# Altium integrated library TI Amplifiers and Linear Operational Amplifier Precision Amplifier Part One.IntLib: 2299 symbols (part 39 of 85)
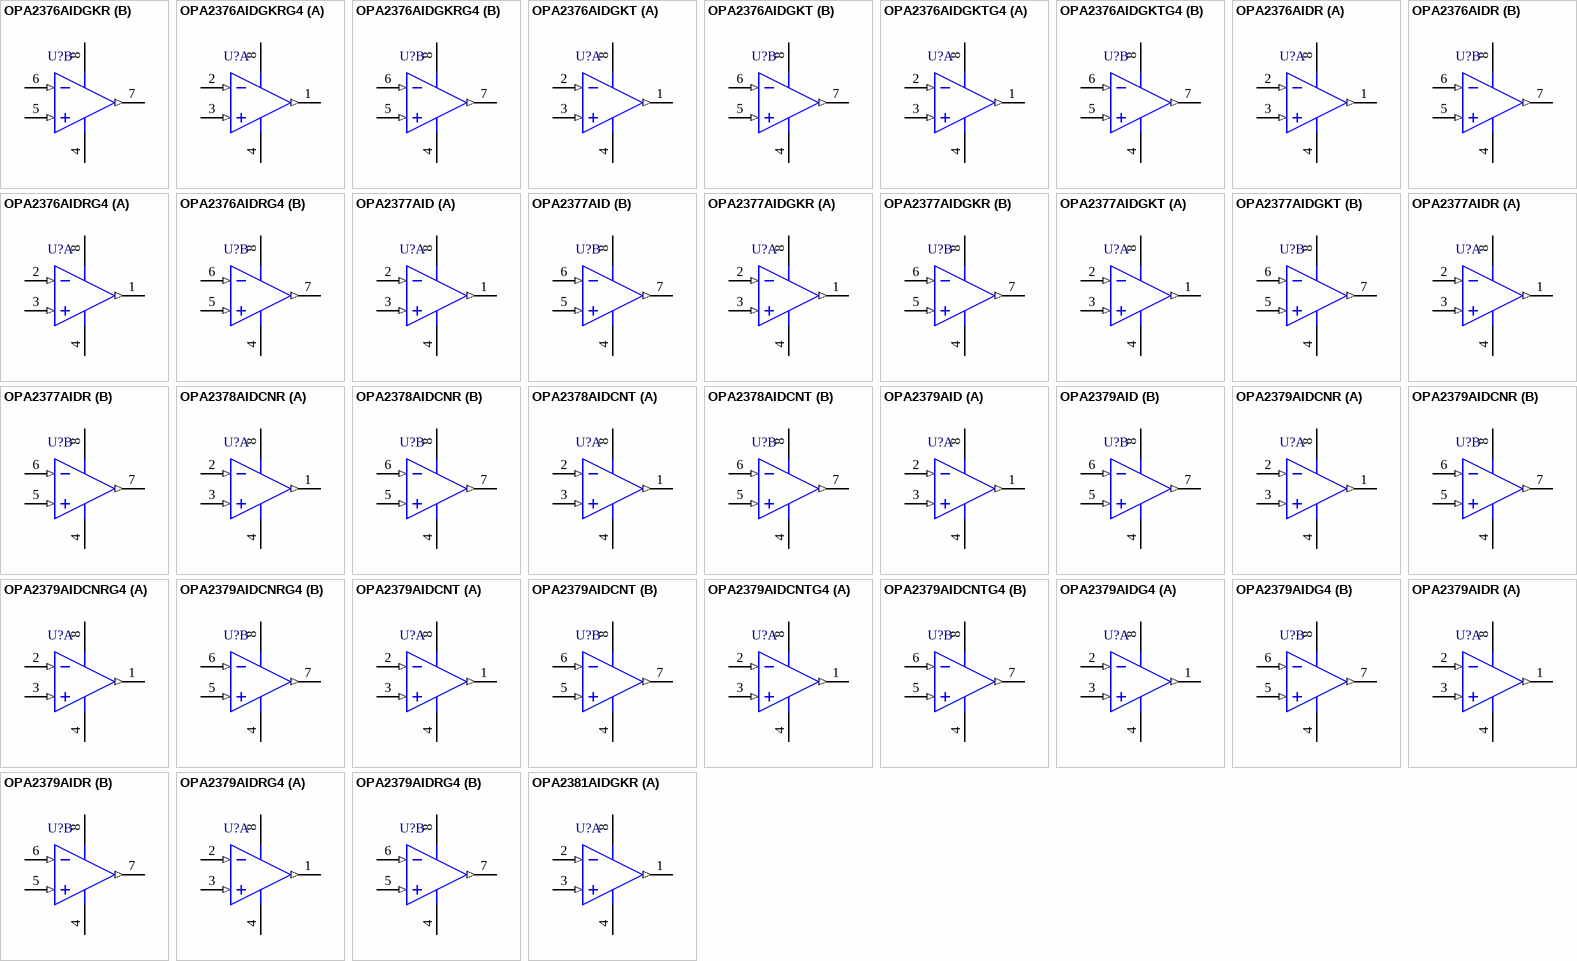
[diagram p162: symbols OPA2376AIDGKR to OPA2381AIDGKR]

## OPA2379AID
designator U?
Dual 2.9 uA, RR I/O Operational Amplifier, 1.8 to 5.5 V, -40 to 125 degC, 8-pin SOIC (D8), Green (RoHS & no Sb/Br); Manufacturer: Texas Instruments; PartNumber: OPA2379AID; CMRR(Min)(dB): 90; GBW(Typ)(MHz): 0.09; IIB(Max)(pA): 50; Iq per channel(Max)(mA): 0.0055; Number of Channels: 2; Offset Drift(Typ)(uV/C): 2.7; Packing: TUBE; Rating: Catalog; Slew Rate(Typ)(V/us): 0.03; Sub Family: Low Power Amp (<=500uA), Low Supply Voltage Amplifier (<=2.7V), Precision Amplifier; Total Supply Voltage(Max)(+5V is 5, +/-5V is 10): 5.5; Total Supply Voltage(Min)(+5V is 5, +/-5V is 10): 1.8; Vio (25C)(Max)(mV): 1.5; DatasheetVersion: SBOS347D; PackageVersion: 4040047-3/M, 06/2011; PackageReference: D8; PackageDescription: 8-Pin Plastic Small Outline, Body 4.9 x 3.9 mm, Pitch 1.27 mm; Supplier 1: Digi-Key; Supplier Part Number 1: 296-19412-5-ND; Supplier 2: Farnell; Supplier Part Number 2: 1564904; Supplier 3: Newark; Supplier Part Number 3: 71K9015; Supplier 4: Mouser; Supplier Part Number 4: 595-OPA2379AID; Eco-Plan: Green (RoHS & no Sb/Br); Mounting Technology: Surface Mount; Code_JEDEC: MS-012; ComponentLink1Description: Manufacturer URL; ComponentLink1URL: http://www.ti.com/; ComponentLink2Description: Datasheet; ComponentLink2URL: http://www.ti.com/lit/ds/symlink/opa2379.pdf; ComponentLink3Description: Package Specification; ComponentLink3URL: http://www.ti.com/litv/pdf/msoi002j
footprint TI-D8_N (SOIC, 8-Leads, Body 4.9x3.9mm, Pitch 1.27mm, IPC Medium Density)
footprint TI-D8_L (SOIC, 8-Leads, Body 4.9x3.9mm, Pitch 1.27mm, IPC High Density)
footprint TI-D8_M (SOIC, 8-Leads, Body 4.9x3.9mm, Pitch 1.27mm, IPC Low Density)
pins on every part: 4 V- (power), 8 V+ (power)
part A pins: 1 OUT A (out), 2 IN A- (in), 3 IN A+ (in)
part B pins: 5 IN B+ (in), 6 IN B- (in), 7 OUT B (out)

## OPA2379AIDCNR
designator U?
Dual 2.9 uA, RR I/O Operational Amplifier, 1.8 to 5.5 V, -40 to 125 degC, 8-pin SOP (DCN8), Green (RoHS & no Sb/Br); Manufacturer: Texas Instruments; PartNumber: OPA2379AIDCNR; CMRR(Min)(dB): 90; GBW(Typ)(MHz): 0.09; IIB(Max)(pA): 50; Iq per channel(Max)(mA): 0.0055; Number of Channels: 2; Offset Drift(Typ)(uV/C): 2.7; Packing: LARGE T&R; Rating: Catalog; Slew Rate(Typ)(V/us): 0.03; Sub Family: Low Power Amp (<=500uA), Low Supply Voltage Amplifier (<=2.7V), Precision Amplifier; Total Supply Voltage(Max)(+5V is 5, +/-5V is 10): 5.5; Total Supply Voltage(Min)(+5V is 5, +/-5V is 10): 1.8; Vio (25C)(Max)(mV): 1.5; DatasheetVersion: SBOS347D; PackageVersion: 4202106/D, 11/2009; PackageReference: DCN8; PackageDescription: 8-Pin Plastic Small Outline, Body 1.6 x 2.9 mm, Pitch 0.65 mm; Supplier 1: Digi-Key; Supplier Part Number 1: 296-23445-2-ND; Supplier 2: Digi-Key; Supplier Part Number 2: 296-23445-1-ND; Supplier 3: Digi-Key; Supplier Part Number 3: 296-23445-6-ND; Supplier 4: Newark; Supplier Part Number 4: 11N9638; Supplier 5: Mouser; Supplier Part Number 5: 595-OPA2379AIDCNR; Eco-Plan: Green (RoHS & no Sb/Br); Mounting Technology: Surface Mount; Code_JEDEC: MO-178; ComponentLink1Description: Manufacturer URL; ComponentLink1URL: http://www.ti.com/; ComponentLink2Description: Datasheet; ComponentLink2URL: http://www.ti.com/lit/ds/symlink/opa2379.pdf; ComponentLink3Description: Package Specification; ComponentLink3URL: http://www.ti.com/lit/ml/mpds099c/mpds099c.pdf
footprint TI-DCN8_N (SOP, 8-Leads, Body 2.9x1.6mm, Pitch 0.65mm, IPC Medium Density)
footprint TI-DCN8_L (SOP, 8-Leads, Body 2.9x1.6mm, Pitch 0.65mm, IPC High Density)
footprint TI-DCN8_M (SOP, 8-Leads, Body 2.9x1.6mm, Pitch 0.65mm, IPC Low Density)
pins on every part: 4 V- (power), 8 V+ (power)
part A pins: 1 OUT A (out), 2 IN A- (in), 3 IN A+ (in)
part B pins: 5 IN B+ (in), 6 IN B- (in), 7 OUT B (out)

## OPA2379AIDCNRG4
designator U?
Dual 2.9 uA, RR I/O Operational Amplifier, 1.8 to 5.5 V, -40 to 125 degC, 8-pin SOP (DCN8), Green (RoHS & no Sb/Br); Manufacturer: Texas Instruments; PartNumber: OPA2379AIDCNRG4; CMRR(Min)(dB): 90; GBW(Typ)(MHz): 0.09; IIB(Max)(pA): 50; Iq per channel(Max)(mA): 0.0055; Number of Channels: 2; Offset Drift(Typ)(uV/C): 2.7; Packing: LARGE T&R; Rating: Catalog; Slew Rate(Typ)(V/us): 0.03; Sub Family: Low Power Amp (<=500uA), Low Supply Voltage Amplifier (<=2.7V), Precision Amplifier; Total Supply Voltage(Max)(+5V is 5, +/-5V is 10): 5.5; Total Supply Voltage(Min)(+5V is 5, +/-5V is 10): 1.8; Vio (25C)(Max)(mV): 1.5; DatasheetVersion: SBOS347D; PackageVersion: 4202106/D, 11/2009; PackageReference: DCN8; PackageDescription: 8-Pin Plastic Small Outline, Body 1.6 x 2.9 mm, Pitch 0.65 mm; Supplier 1: Digi-Key; Supplier Part Number 1: OPA2379AIDCNRG4-ND; Supplier 2: Mouser; Supplier Part Number 2: 595-OPA2379AIDCNRG4; Eco-Plan: Green (RoHS & no Sb/Br); Mounting Technology: Surface Mount; Code_JEDEC: MO-178; ComponentLink1Description: Manufacturer URL; ComponentLink1URL: http://www.ti.com/; ComponentLink2Description: Datasheet; ComponentLink2URL: http://www.ti.com/lit/ds/symlink/opa2379.pdf; ComponentLink3Description: Package Specification; ComponentLink3URL: http://www.ti.com/lit/ml/mpds099c/mpds099c.pdf
footprint TI-DCN8_N (SOP, 8-Leads, Body 2.9x1.6mm, Pitch 0.65mm, IPC Medium Density)
footprint TI-DCN8_L (SOP, 8-Leads, Body 2.9x1.6mm, Pitch 0.65mm, IPC High Density)
footprint TI-DCN8_M (SOP, 8-Leads, Body 2.9x1.6mm, Pitch 0.65mm, IPC Low Density)
pins on every part: 4 V- (power), 8 V+ (power)
part A pins: 1 OUT A (out), 2 IN A- (in), 3 IN A+ (in)
part B pins: 5 IN B+ (in), 6 IN B- (in), 7 OUT B (out)

## OPA2379AIDCNT
designator U?
Dual 2.9 uA, RR I/O Operational Amplifier, 1.8 to 5.5 V, -40 to 125 degC, 8-pin SOP (DCN8), Green (RoHS & no Sb/Br); Manufacturer: Texas Instruments; PartNumber: OPA2379AIDCNT; CMRR(Min)(dB): 90; GBW(Typ)(MHz): 0.09; IIB(Max)(pA): 50; Iq per channel(Max)(mA): 0.0055; Number of Channels: 2; Offset Drift(Typ)(uV/C): 2.7; Packing: SMALL T&R; Rating: Catalog; Slew Rate(Typ)(V/us): 0.03; Sub Family: Low Power Amp (<=500uA), Low Supply Voltage Amplifier (<=2.7V), Precision Amplifier; Total Supply Voltage(Max)(+5V is 5, +/-5V is 10): 5.5; Total Supply Voltage(Min)(+5V is 5, +/-5V is 10): 1.8; Vio (25C)(Max)(mV): 1.5; DatasheetVersion: SBOS347D; PackageVersion: 4202106/D, 11/2009; PackageReference: DCN8; PackageDescription: 8-Pin Plastic Small Outline, Body 1.6 x 2.9 mm, Pitch 0.65 mm; Supplier 1: Digi-Key; Supplier Part Number 1: 296-32185-2-ND; Supplier 2: Digi-Key; Supplier Part Number 2: 296-32185-1-ND; Supplier 3: Digi-Key; Supplier Part Number 3: 296-32185-6-ND; Supplier 4: Newark; Supplier Part Number 4: 11N9639; Supplier 5: Mouser; Supplier Part Number 5: 595-OPA2379AIDCNT; Eco-Plan: Green (RoHS & no Sb/Br); Mounting Technology: Surface Mount; Code_JEDEC: MO-178; ComponentLink1Description: Manufacturer URL; ComponentLink1URL: http://www.ti.com/; ComponentLink2Description: Datasheet; ComponentLink2URL: http://www.ti.com/lit/ds/symlink/opa2379.pdf; ComponentLink3Description: Package Specification; ComponentLink3URL: http://www.ti.com/lit/ml/mpds099c/mpds099c.pdf
footprint TI-DCN8_N (SOP, 8-Leads, Body 2.9x1.6mm, Pitch 0.65mm, IPC Medium Density)
footprint TI-DCN8_L (SOP, 8-Leads, Body 2.9x1.6mm, Pitch 0.65mm, IPC High Density)
footprint TI-DCN8_M (SOP, 8-Leads, Body 2.9x1.6mm, Pitch 0.65mm, IPC Low Density)
pins on every part: 4 V- (power), 8 V+ (power)
part A pins: 1 OUT A (out), 2 IN A- (in), 3 IN A+ (in)
part B pins: 5 IN B+ (in), 6 IN B- (in), 7 OUT B (out)

## OPA2379AIDCNTG4
designator U?
Dual 2.9 uA, RR I/O Operational Amplifier, 1.8 to 5.5 V, -40 to 125 degC, 8-pin SOP (DCN8), Green (RoHS & no Sb/Br); Manufacturer: Texas Instruments; PartNumber: OPA2379AIDCNTG4; CMRR(Min)(dB): 90; GBW(Typ)(MHz): 0.09; IIB(Max)(pA): 50; Iq per channel(Max)(mA): 0.0055; Number of Channels: 2; Offset Drift(Typ)(uV/C): 2.7; Packing: SMALL T&R; Rating: Catalog; Slew Rate(Typ)(V/us): 0.03; Sub Family: Low Power Amp (<=500uA), Low Supply Voltage Amplifier (<=2.7V), Precision Amplifier; Total Supply Voltage(Max)(+5V is 5, +/-5V is 10): 5.5; Total Supply Voltage(Min)(+5V is 5, +/-5V is 10): 1.8; Vio (25C)(Max)(mV): 1.5; DatasheetVersion: SBOS347D; PackageVersion: 4202106/D, 11/2009; PackageReference: DCN8; PackageDescription: 8-Pin Plastic Small Outline, Body 1.6 x 2.9 mm, Pitch 0.65 mm; Supplier 1: Digi-Key; Supplier Part Number 1: OPA2379AIDCNTG4-ND; Supplier 2: Newark; Supplier Part Number 2: 03P4609; Supplier 3: Mouser; Supplier Part Number 3: 595-OPA2379AIDCNTG4; Eco-Plan: Green (RoHS & no Sb/Br); Mounting Technology: Surface Mount; Code_JEDEC: MO-178; ComponentLink1Description: Manufacturer URL; ComponentLink1URL: http://www.ti.com/; ComponentLink2Description: Datasheet; ComponentLink2URL: http://www.ti.com/lit/ds/symlink/opa2379.pdf; ComponentLink3Description: Package Specification; ComponentLink3URL: http://www.ti.com/lit/ml/mpds099c/mpds099c.pdf
footprint TI-DCN8_N (SOP, 8-Leads, Body 2.9x1.6mm, Pitch 0.65mm, IPC Medium Density)
footprint TI-DCN8_L (SOP, 8-Leads, Body 2.9x1.6mm, Pitch 0.65mm, IPC High Density)
footprint TI-DCN8_M (SOP, 8-Leads, Body 2.9x1.6mm, Pitch 0.65mm, IPC Low Density)
pins on every part: 4 V- (power), 8 V+ (power)
part A pins: 1 OUT A (out), 2 IN A- (in), 3 IN A+ (in)
part B pins: 5 IN B+ (in), 6 IN B- (in), 7 OUT B (out)

## OPA2379AIDG4
designator U?
Dual 2.9 uA, RR I/O Operational Amplifier, 1.8 to 5.5 V, -40 to 125 degC, 8-pin SOIC (D8), Green (RoHS & no Sb/Br); Manufacturer: Texas Instruments; PartNumber: OPA2379AIDG4; CMRR(Min)(dB): 90; GBW(Typ)(MHz): 0.09; IIB(Max)(pA): 50; Iq per channel(Max)(mA): 0.0055; Number of Channels: 2; Offset Drift(Typ)(uV/C): 2.7; Packing: TUBE; Rating: Catalog; Slew Rate(Typ)(V/us): 0.03; Sub Family: Low Power Amp (<=500uA), Low Supply Voltage Amplifier (<=2.7V), Precision Amplifier; Total Supply Voltage(Max)(+5V is 5, +/-5V is 10): 5.5; Total Supply Voltage(Min)(+5V is 5, +/-5V is 10): 1.8; Vio (25C)(Max)(mV): 1.5; DatasheetVersion: SBOS347D; PackageVersion: 4040047-3/M, 06/2011; PackageReference: D8; PackageDescription: 8-Pin Plastic Small Outline, Body 4.9 x 3.9 mm, Pitch 1.27 mm; Supplier 1: Digi-Key; Supplier Part Number 1: OPA2379AIDG4-ND; Supplier 2: Mouser; Supplier Part Number 2: 595-OPA2379AIDG4; Eco-Plan: Green (RoHS & no Sb/Br); Mounting Technology: Surface Mount; Code_JEDEC: MS-012; ComponentLink1Description: Manufacturer URL; ComponentLink1URL: http://www.ti.com/; ComponentLink2Description: Datasheet; ComponentLink2URL: http://www.ti.com/lit/ds/symlink/opa2379.pdf; ComponentLink3Description: Package Specification; ComponentLink3URL: http://www.ti.com/litv/pdf/msoi002j
footprint TI-D8_N (SOIC, 8-Leads, Body 4.9x3.9mm, Pitch 1.27mm, IPC Medium Density)
footprint TI-D8_L (SOIC, 8-Leads, Body 4.9x3.9mm, Pitch 1.27mm, IPC High Density)
footprint TI-D8_M (SOIC, 8-Leads, Body 4.9x3.9mm, Pitch 1.27mm, IPC Low Density)
pins on every part: 4 V- (power), 8 V+ (power)
part A pins: 1 OUT A (out), 2 IN A- (in), 3 IN A+ (in)
part B pins: 5 IN B+ (in), 6 IN B- (in), 7 OUT B (out)

## OPA2379AIDR
designator U?
Dual 2.9 uA, RR I/O Operational Amplifier, 1.8 to 5.5 V, -40 to 125 degC, 8-pin SOIC (D8), Green (RoHS & no Sb/Br); Manufacturer: Texas Instruments; PartNumber: OPA2379AIDR; CMRR(Min)(dB): 90; GBW(Typ)(MHz): 0.09; IIB(Max)(pA): 50; Iq per channel(Max)(mA): 0.0055; Number of Channels: 2; Offset Drift(Typ)(uV/C): 2.7; Packing: LARGE T&R; Rating: Catalog; Slew Rate(Typ)(V/us): 0.03; Sub Family: Low Power Amp (<=500uA), Low Supply Voltage Amplifier (<=2.7V), Precision Amplifier; Total Supply Voltage(Max)(+5V is 5, +/-5V is 10): 5.5; Total Supply Voltage(Min)(+5V is 5, +/-5V is 10): 1.8; Vio (25C)(Max)(mV): 1.5; DatasheetVersion: SBOS347D; PackageVersion: 4040047-3/M, 06/2011; PackageReference: D8; PackageDescription: 8-Pin Plastic Small Outline, Body 4.9 x 3.9 mm, Pitch 1.27 mm; Supplier 1: Digi-Key; Supplier Part Number 1: OPA2379AIDR-ND; Supplier 2: Mouser; Supplier Part Number 2: 595-OPA2379AIDR; Eco-Plan: Green (RoHS & no Sb/Br); Mounting Technology: Surface Mount; Code_JEDEC: MS-012; ComponentLink1Description: Manufacturer URL; ComponentLink1URL: http://www.ti.com/; ComponentLink2Description: Datasheet; ComponentLink2URL: http://www.ti.com/lit/ds/symlink/opa2379.pdf; ComponentLink3Description: Package Specification; ComponentLink3URL: http://www.ti.com/litv/pdf/msoi002j
footprint TI-D8_N (SOIC, 8-Leads, Body 4.9x3.9mm, Pitch 1.27mm, IPC Medium Density)
footprint TI-D8_L (SOIC, 8-Leads, Body 4.9x3.9mm, Pitch 1.27mm, IPC High Density)
footprint TI-D8_M (SOIC, 8-Leads, Body 4.9x3.9mm, Pitch 1.27mm, IPC Low Density)
pins on every part: 4 V- (power), 8 V+ (power)
part A pins: 1 OUT A (out), 2 IN A- (in), 3 IN A+ (in)
part B pins: 5 IN B+ (in), 6 IN B- (in), 7 OUT B (out)

## OPA2379AIDRG4
designator U?
Dual 2.9 uA, RR I/O Operational Amplifier, 1.8 to 5.5 V, -40 to 125 degC, 8-pin SOIC (D8), Green (RoHS & no Sb/Br); Manufacturer: Texas Instruments; PartNumber: OPA2379AIDRG4; CMRR(Min)(dB): 90; GBW(Typ)(MHz): 0.09; IIB(Max)(pA): 50; Iq per channel(Max)(mA): 0.0055; Number of Channels: 2; Offset Drift(Typ)(uV/C): 2.7; Packing: LARGE T&R; Rating: Catalog; Slew Rate(Typ)(V/us): 0.03; Sub Family: Low Power Amp (<=500uA), Low Supply Voltage Amplifier (<=2.7V), Precision Amplifier; Total Supply Voltage(Max)(+5V is 5, +/-5V is 10): 5.5; Total Supply Voltage(Min)(+5V is 5, +/-5V is 10): 1.8; Vio (25C)(Max)(mV): 1.5; DatasheetVersion: SBOS347D; PackageVersion: 4040047-3/M, 06/2011; PackageReference: D8; PackageDescription: 8-Pin Plastic Small Outline, Body 4.9 x 3.9 mm, Pitch 1.27 mm; Supplier 1: Digi-Key; Supplier Part Number 1: OPA2379AIDRG4-ND; Supplier 2: Mouser; Supplier Part Number 2: 595-OPA2379AIDRG4; Eco-Plan: Green (RoHS & no Sb/Br); Mounting Technology: Surface Mount; Code_JEDEC: MS-012; ComponentLink1Description: Manufacturer URL; ComponentLink1URL: http://www.ti.com/; ComponentLink2Description: Datasheet; ComponentLink2URL: http://www.ti.com/lit/ds/symlink/opa2379.pdf; ComponentLink3Description: Package Specification; ComponentLink3URL: http://www.ti.com/litv/pdf/msoi002j
footprint TI-D8_N (SOIC, 8-Leads, Body 4.9x3.9mm, Pitch 1.27mm, IPC Medium Density)
footprint TI-D8_L (SOIC, 8-Leads, Body 4.9x3.9mm, Pitch 1.27mm, IPC High Density)
footprint TI-D8_M (SOIC, 8-Leads, Body 4.9x3.9mm, Pitch 1.27mm, IPC Low Density)
pins on every part: 4 V- (power), 8 V+ (power)
part A pins: 1 OUT A (out), 2 IN A- (in), 3 IN A+ (in)
part B pins: 5 IN B+ (in), 6 IN B- (in), 7 OUT B (out)

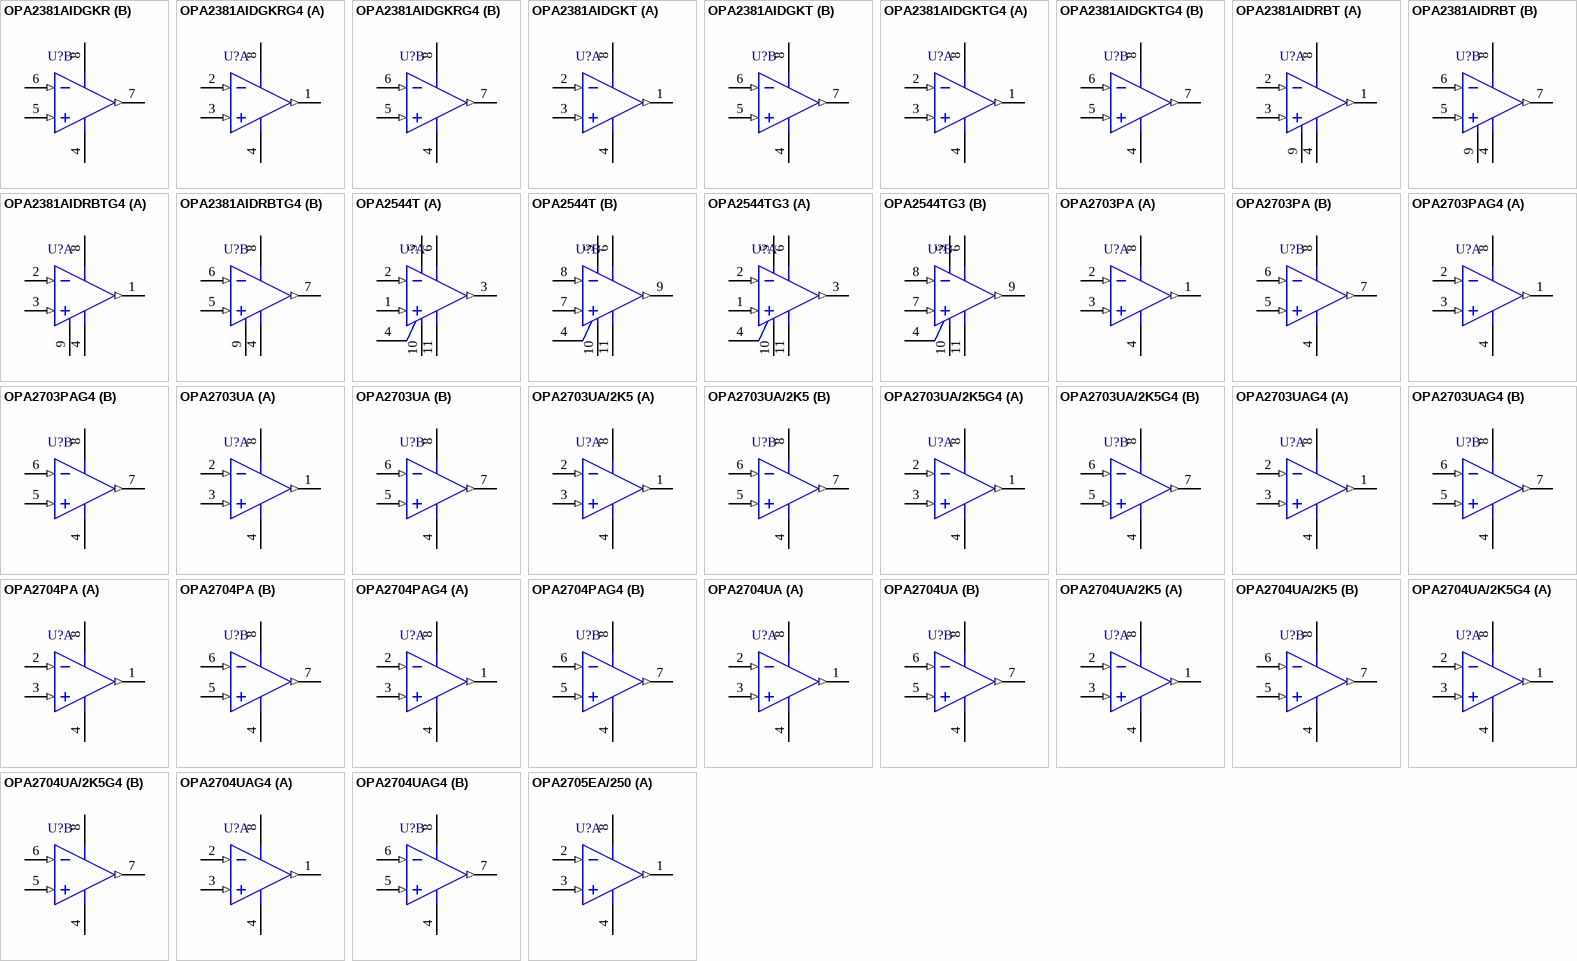
[diagram p44: symbols OPA2381AIDGKR to OPA2705EA/250]

## OPA2381AIDGKR
designator U?
Precision, Low Power, Transimpedance Amplifier, 2.7 to 5 V, -40 to 125 degC, 8-pin SOP (DGK8), Green (RoHS & no Sb/Br); Manufacturer: Texas Instruments; PartNumber: OPA2381AIDGKR; CMRR(Min)(dB): 95; IIB(Max)(pA): 50; Iq per channel(Max)(mA): 1; Number of Channels: 2; Offset Drift(Typ)(uV/C): 0.03; Slew Rate(Typ)(V/us): 12; Sub Family: Low Offset Voltage Amplifier (<=500uV), Low Supply Voltage Amplifier (<=2.7V), Precision Amplifier; Total Supply Voltage(Max)(+5V is 5, +/-5V is 10): 5; Total Supply Voltage(Min)(+5V is 5, +/-5V is 10): 2.7; Vio (25C)(Max)(mV): 0.025; DatasheetVersion: SBOS313B; PackageVersion: 4073329/E, 05/2006; PackageReference: DGK8; PackageDescription: 8-Pin Thin Small Outline, Body 3 x 3 mm, Pitch 0.65 mm; Supplier 1: Digi-Key; Supplier Part Number 1: OPA2381AIDGKR-ND; Supplier 2: Newark; Supplier Part Number 2: 43J9646; Supplier 3: Mouser; Supplier Part Number 3: 595-OPA2381AIDGKR; Eco-Plan: Green (RoHS & no Sb/Br); Mounting Technology: Surface Mount; Code_JEDEC: MO-187; ComponentLink1Description: Manufacturer URL; ComponentLink1URL: http://www.ti.com/; ComponentLink2Description: Datasheet; ComponentLink2URL: http://www.ti.com/general/docs/lit/getliterature.tsp?genericPartNumber=OPA2381&fileType=pdf; ComponentLink3Description: Package Specification; ComponentLink3URL: http://www.ti.com/litv/pdf/mpds028d
footprint TI-DGK8_N (SOP, 8-Leads, Body 3x3mm, Pitch 0.65mm, IPC Medium Density)
footprint TI-DGK8_L (SOP, 8-Leads, Body 3x3mm, Pitch 0.65mm, IPC High Density)
footprint TI-DGK8_M (SOP, 8-Leads, Body 3x3mm, Pitch 0.65mm, IPC Low Density)
pins on every part: 4 V- (power), 8 V+ (power)
part A pins: 1 OUT A (out), 2 IN A- (in), 3 IN A+ (in)
part B pins: 5 IN B+ (in), 6 IN B- (in), 7 OUT B (out)

## OPA2381AIDGKRG4
designator U?
Precision, Low Power, Transimpedance Amplifier, 2.7 to 5 V, -40 to 125 degC, 8-pin SOP (DGK8), Green (RoHS & no Sb/Br); Manufacturer: Texas Instruments; PartNumber: OPA2381AIDGKRG4; CMRR(Min)(dB): 95; IIB(Max)(pA): 50; Iq per channel(Max)(mA): 1; Number of Channels: 2; Offset Drift(Typ)(uV/C): 0.03; Slew Rate(Typ)(V/us): 12; Sub Family: Low Offset Voltage Amplifier (<=500uV), Low Supply Voltage Amplifier (<=2.7V), Precision Amplifier; Total Supply Voltage(Max)(+5V is 5, +/-5V is 10): 5; Total Supply Voltage(Min)(+5V is 5, +/-5V is 10): 2.7; Vio (25C)(Max)(mV): 0.025; DatasheetVersion: SBOS313B; PackageVersion: 4073329/E, 05/2006; PackageReference: DGK8; PackageDescription: 8-Pin Thin Small Outline, Body 3 x 3 mm, Pitch 0.65 mm; Supplier 1: Digi-Key; Supplier Part Number 1: OPA2381AIDGKRG4-ND; Supplier 2: Newark; Supplier Part Number 2: 73K9239; Supplier 3: Mouser; Supplier Part Number 3: 595-OPA2381AIDGKRG4; Eco-Plan: Green (RoHS & no Sb/Br); Mounting Technology: Surface Mount; Code_JEDEC: MO-187; ComponentLink1Description: Manufacturer URL; ComponentLink1URL: http://www.ti.com/; ComponentLink2Description: Datasheet; ComponentLink2URL: http://www.ti.com/general/docs/lit/getliterature.tsp?genericPartNumber=OPA2381&fileType=pdf; ComponentLink3Description: Package Specification; ComponentLink3URL: http://www.ti.com/litv/pdf/mpds028d
footprint TI-DGK8_N (SOP, 8-Leads, Body 3x3mm, Pitch 0.65mm, IPC Medium Density)
footprint TI-DGK8_L (SOP, 8-Leads, Body 3x3mm, Pitch 0.65mm, IPC High Density)
footprint TI-DGK8_M (SOP, 8-Leads, Body 3x3mm, Pitch 0.65mm, IPC Low Density)
pins on every part: 4 V- (power), 8 V+ (power)
part A pins: 1 OUT A (out), 2 IN A- (in), 3 IN A+ (in)
part B pins: 5 IN B+ (in), 6 IN B- (in), 7 OUT B (out)

## OPA2381AIDGKT
designator U?
Precision, Low Power, Transimpedance Amplifier, 2.7 to 5 V, -40 to 125 degC, 8-pin SOP (DGK8), Green (RoHS & no Sb/Br); Manufacturer: Texas Instruments; PartNumber: OPA2381AIDGKT; CMRR(Min)(dB): 95; IIB(Max)(pA): 50; Iq per channel(Max)(mA): 1; Number of Channels: 2; Offset Drift(Typ)(uV/C): 0.03; Slew Rate(Typ)(V/us): 12; Sub Family: Low Offset Voltage Amplifier (<=500uV), Low Supply Voltage Amplifier (<=2.7V), Precision Amplifier; Total Supply Voltage(Max)(+5V is 5, +/-5V is 10): 5; Total Supply Voltage(Min)(+5V is 5, +/-5V is 10): 2.7; Vio (25C)(Max)(mV): 0.025; DatasheetVersion: SBOS313B; PackageVersion: 4073329/E, 05/2006; PackageReference: DGK8; PackageDescription: 8-Pin Thin Small Outline, Body 3 x 3 mm, Pitch 0.65 mm; Supplier 1: Digi-Key; Supplier Part Number 1: 296-17413-2-ND; Supplier 2: Digi-Key; Supplier Part Number 2: 296-17413-1-ND; Supplier 3: Digi-Key; Supplier Part Number 3: 296-17413-6-ND; Supplier 4: Newark; Supplier Part Number 4: 43J9647; Supplier 5: Mouser; Supplier Part Number 5: 595-OPA2381AIDGKT; Eco-Plan: Green (RoHS & no Sb/Br); Mounting Technology: Surface Mount; Code_JEDEC: MO-187; ComponentLink1Description: Manufacturer URL; ComponentLink1URL: http://www.ti.com/; ComponentLink2Description: Datasheet; ComponentLink2URL: http://www.ti.com/general/docs/lit/getliterature.tsp?genericPartNumber=OPA2381&fileType=pdf; ComponentLink3Description: Package Specification; ComponentLink3URL: http://www.ti.com/litv/pdf/mpds028d
footprint TI-DGK8_N (SOP, 8-Leads, Body 3x3mm, Pitch 0.65mm, IPC Medium Density)
footprint TI-DGK8_L (SOP, 8-Leads, Body 3x3mm, Pitch 0.65mm, IPC High Density)
footprint TI-DGK8_M (SOP, 8-Leads, Body 3x3mm, Pitch 0.65mm, IPC Low Density)
pins on every part: 4 V- (power), 8 V+ (power)
part A pins: 1 OUT A (out), 2 IN A- (in), 3 IN A+ (in)
part B pins: 5 IN B+ (in), 6 IN B- (in), 7 OUT B (out)

## OPA2381AIDGKTG4
designator U?
Precision, Low Power, Transimpedance Amplifier, 2.7 to 5 V, -40 to 125 degC, 8-pin SOP (DGK8), Green (RoHS & no Sb/Br); Manufacturer: Texas Instruments; PartNumber: OPA2381AIDGKTG4; CMRR(Min)(dB): 95; IIB(Max)(pA): 50; Iq per channel(Max)(mA): 1; Number of Channels: 2; Offset Drift(Typ)(uV/C): 0.03; Slew Rate(Typ)(V/us): 12; Sub Family: Low Offset Voltage Amplifier (<=500uV), Low Supply Voltage Amplifier (<=2.7V), Precision Amplifier; Total Supply Voltage(Max)(+5V is 5, +/-5V is 10): 5; Total Supply Voltage(Min)(+5V is 5, +/-5V is 10): 2.7; Vio (25C)(Max)(mV): 0.025; DatasheetVersion: SBOS313B; PackageVersion: 4073329/E, 05/2006; PackageReference: DGK8; PackageDescription: 8-Pin Thin Small Outline, Body 3 x 3 mm, Pitch 0.65 mm; Supplier 1: Digi-Key; Supplier Part Number 1: OPA2381AIDGKTG4-ND; Supplier 2: Newark; Supplier Part Number 2: 06M7533; Supplier 3: Mouser; Supplier Part Number 3: 595-OPA2381AIDGKTG4; Eco-Plan: Green (RoHS & no Sb/Br); Mounting Technology: Surface Mount; Code_JEDEC: MO-187; ComponentLink1Description: Manufacturer URL; ComponentLink1URL: http://www.ti.com/; ComponentLink2Description: Datasheet; ComponentLink2URL: http://www.ti.com/general/docs/lit/getliterature.tsp?genericPartNumber=OPA2381&fileType=pdf; ComponentLink3Description: Package Specification; ComponentLink3URL: http://www.ti.com/litv/pdf/mpds028d
footprint TI-DGK8_N (SOP, 8-Leads, Body 3x3mm, Pitch 0.65mm, IPC Medium Density)
footprint TI-DGK8_L (SOP, 8-Leads, Body 3x3mm, Pitch 0.65mm, IPC High Density)
footprint TI-DGK8_M (SOP, 8-Leads, Body 3x3mm, Pitch 0.65mm, IPC Low Density)
pins on every part: 4 V- (power), 8 V+ (power)
part A pins: 1 OUT A (out), 2 IN A- (in), 3 IN A+ (in)
part B pins: 5 IN B+ (in), 6 IN B- (in), 7 OUT B (out)

## OPA2381AIDRBT
designator U?
Precision, Low Power, Transimpedance Amplifier, 2.7 to 5 V, -40 to 125 degC, 8-pin SON (DRB8), Green (RoHS & no Sb/Br); Manufacturer: Texas Instruments; PartNumber: OPA2381AIDRBT; CMRR(Min)(dB): 95; IIB(Max)(pA): 50; Iq per channel(Max)(mA): 1; Number of Channels: 2; Offset Drift(Typ)(uV/C): 0.03; Slew Rate(Typ)(V/us): 12; Sub Family: Low Offset Voltage Amplifier (<=500uV), Low Supply Voltage Amplifier (<=2.7V), Precision Amplifier; Total Supply Voltage(Max)(+5V is 5, +/-5V is 10): 5; Total Supply Voltage(Min)(+5V is 5, +/-5V is 10): 2.7; Vio (25C)(Max)(mV): 0.025; DatasheetVersion: SBOS313B; PackageVersion: 4203482-2/K, 06/2012; PackageReference: DRB8-2400X1650TP; PackageDescription: 8-Pin Plastic Small Outline, Body 3 x 3 mm, Pitch 0.65 mm; Supplier 1: Digi-Key; Supplier Part Number 1: 296-17559-2-ND; Supplier 2: Digi-Key; Supplier Part Number 2: 296-17559-1-ND; Supplier 3: Digi-Key; Supplier Part Number 3: 296-17559-6-ND; Supplier 4: Mouser; Supplier Part Number 4: 595-OPA2381AIDRBT; Eco-Plan: Green (RoHS & no Sb/Br); Mounting Technology: Surface Mount; ComponentLink1Description: Manufacturer URL; ComponentLink1URL: http://www.ti.com/; ComponentLink2Description: Datasheet; ComponentLink2URL: http://www.ti.com/general/docs/lit/getliterature.tsp?genericPartNumber=OPA2381&fileType=pdf; ComponentLink3Description: Package Specification; ComponentLink3URL: http://www.ti.com/litv/pdf/mpds118h
footprint TI-DRB8-2400X1650TP_V (SON, 8-Leads, Body 3x3mm, Pitch 0.65mm, Thermal Pad 2.4x1.65mm)
pins on every part: 4 V- (power), 8 V+ (power), 9 EP (power)
part A pins: 1 OUT A (out), 2 IN A- (in), 3 IN A+ (in)
part B pins: 5 IN B+ (in), 6 IN B- (in), 7 OUT B (out)

## OPA2381AIDRBTG4
designator U?
Precision, Low Power, Transimpedance Amplifier, 2.7 to 5 V, -40 to 125 degC, 8-pin SON (DRB8), Green (RoHS & no Sb/Br); Manufacturer: Texas Instruments; PartNumber: OPA2381AIDRBTG4; CMRR(Min)(dB): 95; IIB(Max)(pA): 50; Iq per channel(Max)(mA): 1; Number of Channels: 2; Offset Drift(Typ)(uV/C): 0.03; Slew Rate(Typ)(V/us): 12; Sub Family: Low Offset Voltage Amplifier (<=500uV), Low Supply Voltage Amplifier (<=2.7V), Precision Amplifier; Total Supply Voltage(Max)(+5V is 5, +/-5V is 10): 5; Total Supply Voltage(Min)(+5V is 5, +/-5V is 10): 2.7; Vio (25C)(Max)(mV): 0.025; DatasheetVersion: SBOS313B; PackageVersion: 4203482-2/K, 06/2012; PackageReference: DRB8-2400X1650TP; PackageDescription: 8-Pin Plastic Small Outline, Body 3 x 3 mm, Pitch 0.65 mm; Supplier 1: Digi-Key; Supplier Part Number 1: OPA2381AIDRBTG4-ND; Supplier 2: Newark; Supplier Part Number 2: 06M7534; Supplier 3: Mouser; Supplier Part Number 3: 595-OPA2381AIDRBTG4; Eco-Plan: Green (RoHS & no Sb/Br); Mounting Technology: Surface Mount; ComponentLink1Description: Manufacturer URL; ComponentLink1URL: http://www.ti.com/; ComponentLink2Description: Datasheet; ComponentLink2URL: http://www.ti.com/general/docs/lit/getliterature.tsp?genericPartNumber=OPA2381&fileType=pdf; ComponentLink3Description: Package Specification; ComponentLink3URL: http://www.ti.com/litv/pdf/mpds118h
footprint TI-DRB8-2400X1650TP_V (SON, 8-Leads, Body 3x3mm, Pitch 0.65mm, Thermal Pad 2.4x1.65mm)
pins on every part: 4 V- (power), 8 V+ (power), 9 EP (power)
part A pins: 1 OUT A (out), 2 IN A- (in), 3 IN A+ (in)
part B pins: 5 IN B+ (in), 6 IN B- (in), 7 OUT B (out)

## OPA2544T
designator U?
High-Voltage, High-Current Dual Operational Amplifier, 20 to 70 V, -40 to 85 degC, 11-pin FM (KV), Green (RoHS & no Sb/Br); Manufacturer: Texas Instruments; PartNumber: OPA2544T; CMRR(Min)(dB): 90; GBW(Typ)(MHz): 1.4; IIB(Max)(pA): 50; Iq per channel(Max)(mA): 15; Number of Channels: 2; Offset Drift(Typ)(uV/C): 10; Packing: TUBE; Rating: Catalog; Slew Rate(Typ)(V/us): 8; Sub Family: High Output Current Amplifier (>=50mA), High Supply Voltage Amplifier (>=30V), Precision Amplifier; Total Supply Voltage(Max)(+5V is 5, +/-5V is 10): 70; Total Supply Voltage(Min)(+5V is 5, +/-5V is 10): 20; Vio (25C)(Max)(mV): 5; DatasheetVersion: SBOS037; PackageVersion: 4202503/C, 06/2009; PackageReference: KV11; PackageDescription: 11-Pin Plastic Flange Mount, Body 20.015 x 4.495 mm, Pitch 1.7 mm; Supplier 1: Digi-Key; Supplier Part Number 1: OPA2544T-ND; Supplier 2: Newark; Supplier Part Number 2: 88K1149; Supplier 3: Mouser; Supplier Part Number 3: 595-OPA2544T; Eco-Plan: Green (RoHS & no Sb/Br); Mounting Technology: Through Hole; Code_JEDEC: MO-48-AA; ComponentLink1Description: Manufacturer URL; ComponentLink1URL: http://www.ti.com/; ComponentLink2Description: Datasheet; ComponentLink2URL: http://www.ti.com/lit/ds/symlink/opa2544.pdf; ComponentLink3Description: Package Specification; ComponentLink3URL: http://www.ti.com/litv/pdf/mpzf003b
footprint TI-KV11_V (FM, 11-Leads, Body 20.015x4.495mm, Pitch 1.7mm)
pins on every part: 4 NC, 5 V+ (power), 6 V+ (power), 10 V- (power), 11 V- (power)
part A pins: 1 IN A+ (in), 2 IN A- (in), 3 OUT A (out)
part B pins: 7 IN B+ (in), 8 IN B- (in), 9 OUT B (out)

## OPA2544TG3
designator U?
High-Voltage, High-Current Dual Operational Amplifier, 20 to 70 V, -40 to 85 degC, 11-pin FM (KV), Green (RoHS & no Sb/Br); Manufacturer: Texas Instruments; PartNumber: OPA2544TG3; CMRR(Min)(dB): 90; GBW(Typ)(MHz): 1.4; IIB(Max)(pA): 50; Iq per channel(Max)(mA): 15; Number of Channels: 2; Offset Drift(Typ)(uV/C): 10; Packing: TUBE; Rating: Catalog; Slew Rate(Typ)(V/us): 8; Sub Family: High Output Current Amplifier (>=50mA), High Supply Voltage Amplifier (>=30V), Precision Amplifier; Total Supply Voltage(Max)(+5V is 5, +/-5V is 10): 70; Total Supply Voltage(Min)(+5V is 5, +/-5V is 10): 20; Vio (25C)(Max)(mV): 5; DatasheetVersion: SBOS037; PackageVersion: 4202503/C, 06/2009; PackageReference: KV11; PackageDescription: 11-Pin Plastic Flange Mount, Body 20.015 x 4.495 mm, Pitch 1.7 mm; Supplier 1: Digi-Key; Supplier Part Number 1: OPA2544TG3-ND; Supplier 2: Farnell; Supplier Part Number 2: 1207103; Supplier 3: Newark; Supplier Part Number 3: 97K6813; Supplier 4: Newark; Supplier Part Number 4: 81K3693; Supplier 5: Mouser; Supplier Part Number 5: 595-OPA2544TG3; Eco-Plan: Green (RoHS & no Sb/Br); Mounting Technology: Through Hole; Code_JEDEC: MO-48-AA; ComponentLink1Description: Manufacturer URL; ComponentLink1URL: http://www.ti.com/; ComponentLink2Description: Datasheet; ComponentLink2URL: http://www.ti.com/lit/ds/symlink/opa2544.pdf; ComponentLink3Description: Package Specification; ComponentLink3URL: http://www.ti.com/litv/pdf/mpzf003b
footprint TI-KV11_V (FM, 11-Leads, Body 20.015x4.495mm, Pitch 1.7mm)
pins on every part: 4 NC, 5 V+ (power), 6 V+ (power), 10 V- (power), 11 V- (power)
part A pins: 1 IN A+ (in), 2 IN A- (in), 3 OUT A (out)
part B pins: 7 IN B+ (in), 8 IN B- (in), 9 OUT B (out)

## OPA2703PA
designator U?
CMOS, Rail-to-Rail I/O, Operational Amplifier, 4 to 12 V, -40 to 85 degC, 8-pin DIP (P8), Green (RoHS & no Sb/Br); Manufacturer: Texas Instruments; PartNumber: OPA2703PA; CMRR(Min)(dB): 70; GBW(Typ)(MHz): 1; IIB(Max)(pA): 10; Iq per channel(Max)(mA): 0.2; Number of Channels: 2; Offset Drift(Typ)(uV/C): 4; Packing: TUBE; Rating: Catalog; Slew Rate(Typ)(V/us): 0.6; Sub Family: Low Input Bias Current Amp (<=10pA), Low Power Amp (<=500uA), Precision Amplifier; Total Supply Voltage(Max)(+5V is 5, +/-5V is 10): 12; Vio (25C)(Max)(mV): 0.75; DatasheetVersion: SBOS180A; PackageVersion: 4040082/E, 04/2010; PackageReference: P8; PackageDescription: 8-Pin Plastic In-Line, Body 9.59 x 6.35 mm, Pitch 2.54 mm; Supplier 1: Digi-Key; Supplier Part Number 1: OPA2703PA-ND; Supplier 2: Mouser; Supplier Part Number 2: 595-OPA2703PA; Eco-Plan: Green (RoHS & no Sb/Br); Total Supply Voltage(Min)(+5V is 5, +/-5V is 10): 4; Mounting Technology: Through Hole; Code_JEDEC: MS-001; ComponentLink1Description: Manufacturer URL; ComponentLink1URL: http://www.ti.com/; ComponentLink2Description: Datasheet; ComponentLink2URL: http://www.ti.com/lit/ds/symlink/opa2703.pdf; ComponentLink3Description: Package Specification; ComponentLink3URL: http://www.ti.com/litv/pdf/mpdi001b
footprint TI-P8 (DIP, 8-Leads, Body 9.59x6.35mm, Pitch 2.54mm)
pins on every part: 4 V- (power), 8 V+ (power)
part A pins: 1 OUT A (out), 2 IN A- (in), 3 IN A+ (in)
part B pins: 5 IN B+ (in), 6 IN B- (in), 7 OUT B (out)

## OPA2703PAG4
designator U?
CMOS, Rail-to-Rail I/O, Operational Amplifier, 4 to 12 V, -40 to 85 degC, 8-pin DIP (P8), Green (RoHS & no Sb/Br); Manufacturer: Texas Instruments; PartNumber: OPA2703PAG4; CMRR(Min)(dB): 70; GBW(Typ)(MHz): 1; IIB(Max)(pA): 10; Iq per channel(Max)(mA): 0.2; Number of Channels: 2; Offset Drift(Typ)(uV/C): 4; Packing: TUBE; Rating: Catalog; Slew Rate(Typ)(V/us): 0.6; Sub Family: Low Input Bias Current Amp (<=10pA), Low Power Amp (<=500uA), Precision Amplifier; Total Supply Voltage(Max)(+5V is 5, +/-5V is 10): 12; Vio (25C)(Max)(mV): 0.75; DatasheetVersion: SBOS180A; PackageVersion: 4040082/E, 04/2010; PackageReference: P8; PackageDescription: 8-Pin Plastic In-Line, Body 9.59 x 6.35 mm, Pitch 2.54 mm; Supplier 1: Digi-Key; Supplier Part Number 1: OPA2703PAG4-ND; Supplier 2: Mouser; Supplier Part Number 2: 595-OPA2703PAG4; Eco-Plan: Green (RoHS & no Sb/Br); Total Supply Voltage(Min)(+5V is 5, +/-5V is 10): 4; Mounting Technology: Through Hole; Code_JEDEC: MS-001; ComponentLink1Description: Manufacturer URL; ComponentLink1URL: http://www.ti.com/; ComponentLink2Description: Datasheet; ComponentLink2URL: http://www.ti.com/lit/ds/symlink/opa2703.pdf; ComponentLink3Description: Package Specification; ComponentLink3URL: http://www.ti.com/litv/pdf/mpdi001b
footprint TI-P8 (DIP, 8-Leads, Body 9.59x6.35mm, Pitch 2.54mm)
pins on every part: 4 V- (power), 8 V+ (power)
part A pins: 1 OUT A (out), 2 IN A- (in), 3 IN A+ (in)
part B pins: 5 IN B+ (in), 6 IN B- (in), 7 OUT B (out)

## OPA2703UA
designator U?
CMOS, Rail-to-Rail I/O, Operational Amplifier, 4 to 12 V, -40 to 85 degC, 8-pin SOIC (D8), Green (RoHS & no Sb/Br); Manufacturer: Texas Instruments; PartNumber: OPA2703UA; CMRR(Min)(dB): 70; GBW(Typ)(MHz): 1; IIB(Max)(pA): 10; Iq per channel(Max)(mA): 0.2; Number of Channels: 2; Offset Drift(Typ)(uV/C): 4; Packing: TUBE; Rating: Catalog; Slew Rate(Typ)(V/us): 0.6; Sub Family: Low Input Bias Current Amp (<=10pA), Low Power Amp (<=500uA), Precision Amplifier; Total Supply Voltage(Max)(+5V is 5, +/-5V is 10): 12; Vio (25C)(Max)(mV): 0.75; DatasheetVersion: SBOS180A; PackageVersion: 4040047-3/M, 06/2011; PackageReference: D8; PackageDescription: 8-Pin Plastic Small Outline, Body 4.9 x 3.9 mm, Pitch 1.27 mm; Supplier 1: Digi-Key; Supplier Part Number 1: OPA2703UA-ND; Supplier 2: Farnell; Supplier Part Number 2: 1459578; Supplier 3: Mouser; Supplier Part Number 3: 595-OPA2703UA; Eco-Plan: Green (RoHS & no Sb/Br); Total Supply Voltage(Min)(+5V is 5, +/-5V is 10): 4; Mounting Technology: Surface Mount; Code_JEDEC: MS-012; ComponentLink1Description: Manufacturer URL; ComponentLink1URL: http://www.ti.com/; ComponentLink2Description: Datasheet; ComponentLink2URL: http://www.ti.com/lit/ds/symlink/opa2703.pdf; ComponentLink3Description: Package Specification; ComponentLink3URL: http://www.ti.com/litv/pdf/msoi002j
footprint TI-D8_N (SOIC, 8-Leads, Body 4.9x3.9mm, Pitch 1.27mm, IPC Medium Density)
footprint TI-D8_L (SOIC, 8-Leads, Body 4.9x3.9mm, Pitch 1.27mm, IPC High Density)
footprint TI-D8_M (SOIC, 8-Leads, Body 4.9x3.9mm, Pitch 1.27mm, IPC Low Density)
pins on every part: 4 V- (power), 8 V+ (power)
part A pins: 1 OUT A (out), 2 IN A- (in), 3 IN A+ (in)
part B pins: 5 IN B+ (in), 6 IN B- (in), 7 OUT B (out)

## OPA2703UA/2K5
designator U?
CMOS, Rail-to-Rail I/O, Operational Amplifier, 4 to 12 V, -40 to 85 degC, 8-pin SOIC (D8), Green (RoHS & no Sb/Br); Manufacturer: Texas Instruments; PartNumber: OPA2703UA/2K5; CMRR(Min)(dB): 70; GBW(Typ)(MHz): 1; IIB(Max)(pA): 10; Iq per channel(Max)(mA): 0.2; Number of Channels: 2; Offset Drift(Typ)(uV/C): 4; Packing: LARGE T&R; Rating: Catalog; Slew Rate(Typ)(V/us): 0.6; Sub Family: Low Input Bias Current Amp (<=10pA), Low Power Amp (<=500uA), Precision Amplifier; Total Supply Voltage(Max)(+5V is 5, +/-5V is 10): 12; Vio (25C)(Max)(mV): 0.75; DatasheetVersion: SBOS180A; PackageVersion: 4040047-3/M, 06/2011; PackageReference: D8; PackageDescription: 8-Pin Plastic Small Outline, Body 4.9 x 3.9 mm, Pitch 1.27 mm; Supplier 1: Digi-Key; Supplier Part Number 1: OPA2703UA/2K5-ND; Supplier 2: Mouser; Supplier Part Number 2: 595-OPA2703UA/2K5; Eco-Plan: Green (RoHS & no Sb/Br); Total Supply Voltage(Min)(+5V is 5, +/-5V is 10): 4; Mounting Technology: Surface Mount; Code_JEDEC: MS-012; ComponentLink1Description: Manufacturer URL; ComponentLink1URL: http://www.ti.com/; ComponentLink2Description: Datasheet; ComponentLink2URL: http://www.ti.com/lit/ds/symlink/opa2703.pdf; ComponentLink3Description: Package Specification; ComponentLink3URL: http://www.ti.com/litv/pdf/msoi002j
footprint TI-D8_N (SOIC, 8-Leads, Body 4.9x3.9mm, Pitch 1.27mm, IPC Medium Density)
footprint TI-D8_L (SOIC, 8-Leads, Body 4.9x3.9mm, Pitch 1.27mm, IPC High Density)
footprint TI-D8_M (SOIC, 8-Leads, Body 4.9x3.9mm, Pitch 1.27mm, IPC Low Density)
pins on every part: 4 V- (power), 8 V+ (power)
part A pins: 1 OUT A (out), 2 IN A- (in), 3 IN A+ (in)
part B pins: 5 IN B+ (in), 6 IN B- (in), 7 OUT B (out)

## OPA2703UA/2K5G4
designator U?
CMOS, Rail-to-Rail I/O, Operational Amplifier, 4 to 12 V, -40 to 85 degC, 8-pin SOIC (D8), Green (RoHS & no Sb/Br); Manufacturer: Texas Instruments; PartNumber: OPA2703UA/2K5G4; CMRR(Min)(dB): 70; GBW(Typ)(MHz): 1; IIB(Max)(pA): 10; Iq per channel(Max)(mA): 0.2; Number of Channels: 2; Offset Drift(Typ)(uV/C): 4; Packing: LARGE T&R; Rating: Catalog; Slew Rate(Typ)(V/us): 0.6; Sub Family: Low Input Bias Current Amp (<=10pA), Low Power Amp (<=500uA), Precision Amplifier; Total Supply Voltage(Max)(+5V is 5, +/-5V is 10): 12; Vio (25C)(Max)(mV): 0.75; DatasheetVersion: SBOS180A; PackageVersion: 4040047-3/M, 06/2011; PackageReference: D8; PackageDescription: 8-Pin Plastic Small Outline, Body 4.9 x 3.9 mm, Pitch 1.27 mm; Supplier 1: Digi-Key; Supplier Part Number 1: OPA2703UA/2K5G4-ND; Supplier 2: Mouser; Supplier Part Number 2: 595-OPA2703UA/2K5G4; Eco-Plan: Green (RoHS & no Sb/Br); Total Supply Voltage(Min)(+5V is 5, +/-5V is 10): 4; Mounting Technology: Surface Mount; Code_JEDEC: MS-012; ComponentLink1Description: Manufacturer URL; ComponentLink1URL: http://www.ti.com/; ComponentLink2Description: Datasheet; ComponentLink2URL: http://www.ti.com/lit/ds/symlink/opa2703.pdf; ComponentLink3Description: Package Specification; ComponentLink3URL: http://www.ti.com/litv/pdf/msoi002j
footprint TI-D8_N (SOIC, 8-Leads, Body 4.9x3.9mm, Pitch 1.27mm, IPC Medium Density)
footprint TI-D8_L (SOIC, 8-Leads, Body 4.9x3.9mm, Pitch 1.27mm, IPC High Density)
footprint TI-D8_M (SOIC, 8-Leads, Body 4.9x3.9mm, Pitch 1.27mm, IPC Low Density)
pins on every part: 4 V- (power), 8 V+ (power)
part A pins: 1 OUT A (out), 2 IN A- (in), 3 IN A+ (in)
part B pins: 5 IN B+ (in), 6 IN B- (in), 7 OUT B (out)

## OPA2703UAG4
designator U?
CMOS, Rail-to-Rail I/O, Operational Amplifier, 4 to 12 V, -40 to 85 degC, 8-pin SOIC (D8), Green (RoHS & no Sb/Br); Manufacturer: Texas Instruments; PartNumber: OPA2703UAG4; CMRR(Min)(dB): 70; GBW(Typ)(MHz): 1; IIB(Max)(pA): 10; Iq per channel(Max)(mA): 0.2; Number of Channels: 2; Offset Drift(Typ)(uV/C): 4; Packing: TUBE; Rating: Catalog; Slew Rate(Typ)(V/us): 0.6; Sub Family: Low Input Bias Current Amp (<=10pA), Low Power Amp (<=500uA), Precision Amplifier; Total Supply Voltage(Max)(+5V is 5, +/-5V is 10): 12; Vio (25C)(Max)(mV): 0.75; DatasheetVersion: SBOS180A; PackageVersion: 4040047-3/M, 06/2011; PackageReference: D8; PackageDescription: 8-Pin Plastic Small Outline, Body 4.9 x 3.9 mm, Pitch 1.27 mm; Supplier 1: Digi-Key; Supplier Part Number 1: OPA2703UAG4-ND; Supplier 2: Newark; Supplier Part Number 2: 67K8192; Supplier 3: Mouser; Supplier Part Number 3: 595-OPA2703UAG4; Eco-Plan: Green (RoHS & no Sb/Br); Total Supply Voltage(Min)(+5V is 5, +/-5V is 10): 4; Mounting Technology: Surface Mount; Code_JEDEC: MS-012; ComponentLink1Description: Manufacturer URL; ComponentLink1URL: http://www.ti.com/; ComponentLink2Description: Datasheet; ComponentLink2URL: http://www.ti.com/lit/ds/symlink/opa2703.pdf; ComponentLink3Description: Package Specification; ComponentLink3URL: http://www.ti.com/litv/pdf/msoi002j
footprint TI-D8_N (SOIC, 8-Leads, Body 4.9x3.9mm, Pitch 1.27mm, IPC Medium Density)
footprint TI-D8_L (SOIC, 8-Leads, Body 4.9x3.9mm, Pitch 1.27mm, IPC High Density)
footprint TI-D8_M (SOIC, 8-Leads, Body 4.9x3.9mm, Pitch 1.27mm, IPC Low Density)
pins on every part: 4 V- (power), 8 V+ (power)
part A pins: 1 OUT A (out), 2 IN A- (in), 3 IN A+ (in)
part B pins: 5 IN B+ (in), 6 IN B- (in), 7 OUT B (out)

## OPA2704PA
designator U?
CMOS, Rail-to-Rail I/O, Operational Amplifier, 4 to 12 V, -40 to 85 degC, 8-pin DIP (P8), Green (RoHS & no Sb/Br); Manufacturer: Texas Instruments; PartNumber: OPA2704PA; CMRR(Min)(dB): 70; GBW(Typ)(MHz): 3; IIB(Max)(pA): 10; Iq per channel(Max)(mA): 0.2; Number of Channels: 2; Offset Drift(Typ)(uV/C): 4; Packing: TUBE; Rating: Catalog; Sub Family: Low Input Bias Current Amp (<=10pA), Low Power Amp (<=500uA), Precision Amplifier; Total Supply Voltage(Max)(+5V is 5, +/-5V is 10): 12; Vio (25C)(Max)(mV): 0.75; DatasheetVersion: SBOS180A; PackageVersion: 4040082/E, 04/2010; PackageReference: P8; PackageDescription: 8-Pin Plastic In-Line, Body 9.59 x 6.35 mm, Pitch 2.54 mm; Supplier 1: Digi-Key; Supplier Part Number 1: OPA2704PA-ND; Supplier 2: Newark; Supplier Part Number 2: 75C4810; Supplier 3: Mouser; Supplier Part Number 3: 595-OPA2704PA; Eco-Plan: Green (RoHS & no Sb/Br); Slew Rate(Typ)(V/us): 3; Total Supply Voltage(Min)(+5V is 5, +/-5V is 10): 4; Mounting Technology: Through Hole; Code_JEDEC: MS-001; ComponentLink1Description: Manufacturer URL; ComponentLink1URL: http://www.ti.com/; ComponentLink2Description: Datasheet; ComponentLink2URL: http://www.ti.com/lit/ds/symlink/opa2704.pdf; ComponentLink3Description: Package Specification; ComponentLink3URL: http://www.ti.com/litv/pdf/mpdi001b
footprint TI-P8 (DIP, 8-Leads, Body 9.59x6.35mm, Pitch 2.54mm)
pins on every part: 4 V- (power), 8 V+ (power)
part A pins: 1 OUT A (out), 2 IN A- (in), 3 IN A+ (in)
part B pins: 5 IN B+ (in), 6 IN B- (in), 7 OUT B (out)

## OPA2704PAG4
designator U?
CMOS, Rail-to-Rail I/O, Operational Amplifier, 4 to 12 V, -40 to 85 degC, 8-pin DIP (P8), Green (RoHS & no Sb/Br); Manufacturer: Texas Instruments; PartNumber: OPA2704PAG4; CMRR(Min)(dB): 70; GBW(Typ)(MHz): 3; IIB(Max)(pA): 10; Iq per channel(Max)(mA): 0.2; Number of Channels: 2; Offset Drift(Typ)(uV/C): 4; Packing: TUBE; Rating: Catalog; Sub Family: Low Input Bias Current Amp (<=10pA), Low Power Amp (<=500uA), Precision Amplifier; Total Supply Voltage(Max)(+5V is 5, +/-5V is 10): 12; Vio (25C)(Max)(mV): 0.75; DatasheetVersion: SBOS180A; PackageVersion: 4040082/E, 04/2010; PackageReference: P8; PackageDescription: 8-Pin Plastic In-Line, Body 9.59 x 6.35 mm, Pitch 2.54 mm; Supplier 1: Digi-Key; Supplier Part Number 1: OPA2704PAG4-ND; Supplier 2: Mouser; Supplier Part Number 2: 595-OPA2704PAG4; Eco-Plan: Green (RoHS & no Sb/Br); Slew Rate(Typ)(V/us): 3; Total Supply Voltage(Min)(+5V is 5, +/-5V is 10): 4; Mounting Technology: Through Hole; Code_JEDEC: MS-001; ComponentLink1Description: Manufacturer URL; ComponentLink1URL: http://www.ti.com/; ComponentLink2Description: Datasheet; ComponentLink2URL: http://www.ti.com/lit/ds/symlink/opa2704.pdf; ComponentLink3Description: Package Specification; ComponentLink3URL: http://www.ti.com/litv/pdf/mpdi001b
footprint TI-P8 (DIP, 8-Leads, Body 9.59x6.35mm, Pitch 2.54mm)
pins on every part: 4 V- (power), 8 V+ (power)
part A pins: 1 OUT A (out), 2 IN A- (in), 3 IN A+ (in)
part B pins: 5 IN B+ (in), 6 IN B- (in), 7 OUT B (out)

## OPA2704UA
designator U?
CMOS, Rail-to-Rail I/O, Operational Amplifier, 4 to 12 V, -40 to 85 degC, 8-pin SOIC (D8), Green (RoHS & no Sb/B); Manufacturer: Texas Instruments; PartNumber: OPA2704UA; CMRR(Min)(dB): 70; Eco-Plan: Green (RoHS & no Sb/Br); GBW(Typ)(MHz): 3; IIB(Max)(pA): 10; Iq per channel(Max)(mA): 0.2; Number of Channels: 2; Offset Drift(Typ)(uV/C): 4; Packing: TUBE; Rating: Catalog; Sub Family: Low Input Bias Current Amp (<=10pA), Low Power Amp (<=500uA), Precision Amplifier; Total Supply Voltage(Max)(+5V is 5, +/-5V is 10): 12; Vio (25C)(Max)(mV): 0.75; DatasheetVersion: SBOS180A; PackageVersion: 4040047-3/M, 06/2011; PackageReference: D8; PackageDescription: 8-Pin Plastic Small Outline, Body 4.9 x 3.9 mm, Pitch 1.27 mm; Supplier 1: Digi-Key; Supplier Part Number 1: OPA2704UA-ND; Supplier 2: Farnell; Supplier Part Number 2: 1459579; Supplier 3: Newark; Supplier Part Number 3: 61M8033; Supplier 4: Newark; Supplier Part Number 4: 75C4811; Supplier 5: Mouser; Supplier Part Number 5: 595-OPA2704UA; Slew Rate(Typ)(V/us): 3; Total Supply Voltage(Min)(+5V is 5, +/-5V is 10): 4; Mounting Technology: Surface Mount; Code_JEDEC: MS-012; ComponentLink1Description: Manufacturer URL; ComponentLink1URL: http://www.ti.com/; ComponentLink2Description: Datasheet; ComponentLink2URL: http://www.ti.com/lit/ds/symlink/opa2704.pdf; ComponentLink3Description: Package Specification; ComponentLink3URL: http://www.ti.com/litv/pdf/msoi002j
footprint TI-D8_N (SOIC, 8-Leads, Body 4.9x3.9mm, Pitch 1.27mm, IPC Medium Density)
footprint TI-D8_L (SOIC, 8-Leads, Body 4.9x3.9mm, Pitch 1.27mm, IPC High Density)
footprint TI-D8_M (SOIC, 8-Leads, Body 4.9x3.9mm, Pitch 1.27mm, IPC Low Density)
pins on every part: 4 V- (power), 8 V+ (power)
part A pins: 1 OUT A (out), 2 IN A- (in), 3 IN A+ (in)
part B pins: 5 IN B+ (in), 6 IN B- (in), 7 OUT B (out)

## OPA2704UA/2K5
designator U?
CMOS, Rail-to-Rail I/O, Operational Amplifier, 4 to 12 V, -40 to 85 degC, 8-pin SOIC (D8), Green (RoHS & no Sb/Br); Manufacturer: Texas Instruments; PartNumber: OPA2704UA/2K5; CMRR(Min)(dB): 70; GBW(Typ)(MHz): 3; IIB(Max)(pA): 10; Iq per channel(Max)(mA): 0.2; Number of Channels: 2; Offset Drift(Typ)(uV/C): 4; Packing: LARGE T&R; Rating: Catalog; Sub Family: Low Input Bias Current Amp (<=10pA), Low Power Amp (<=500uA), Precision Amplifier; Total Supply Voltage(Max)(+5V is 5, +/-5V is 10): 12; Vio (25C)(Max)(mV): 0.75; DatasheetVersion: SBOS180A; PackageVersion: 4040047-3/M, 06/2011; PackageReference: D8; PackageDescription: 8-Pin Plastic Small Outline, Body 4.9 x 3.9 mm, Pitch 1.27 mm; Supplier 1: Digi-Key; Supplier Part Number 1: OPA2704UA/2K5-ND; Supplier 2: Mouser; Supplier Part Number 2: 595-OPA2704UA/2K5; Eco-Plan: Green (RoHS & no Sb/Br); Slew Rate(Typ)(V/us): 3; Total Supply Voltage(Min)(+5V is 5, +/-5V is 10): 4; Mounting Technology: Surface Mount; Code_JEDEC: MS-012; ComponentLink1Description: Manufacturer URL; ComponentLink1URL: http://www.ti.com/; ComponentLink2Description: Datasheet; ComponentLink2URL: http://www.ti.com/lit/ds/symlink/opa2704.pdf; ComponentLink3Description: Package Specification; ComponentLink3URL: http://www.ti.com/litv/pdf/msoi002j
footprint TI-D8_N (SOIC, 8-Leads, Body 4.9x3.9mm, Pitch 1.27mm, IPC Medium Density)
footprint TI-D8_L (SOIC, 8-Leads, Body 4.9x3.9mm, Pitch 1.27mm, IPC High Density)
footprint TI-D8_M (SOIC, 8-Leads, Body 4.9x3.9mm, Pitch 1.27mm, IPC Low Density)
pins on every part: 4 V- (power), 8 V+ (power)
part A pins: 1 OUT A (out), 2 IN A- (in), 3 IN A+ (in)
part B pins: 5 IN B+ (in), 6 IN B- (in), 7 OUT B (out)

## OPA2704UA/2K5G4
designator U?
CMOS, Rail-to-Rail I/O, Operational Amplifier, 4 to 12 V, -40 to 85 degC, 8-pin SOIC (D8), Green (RoHS & no Sb/Br); Manufacturer: Texas Instruments; PartNumber: OPA2704UA/2K5G4; CMRR(Min)(dB): 70; GBW(Typ)(MHz): 3; IIB(Max)(pA): 10; Iq per channel(Max)(mA): 0.2; Number of Channels: 2; Offset Drift(Typ)(uV/C): 4; Packing: LARGE T&R; Rating: Catalog; Sub Family: Low Input Bias Current Amp (<=10pA), Low Power Amp (<=500uA), Precision Amplifier; Total Supply Voltage(Max)(+5V is 5, +/-5V is 10): 12; Vio (25C)(Max)(mV): 0.75; DatasheetVersion: SBOS180A; PackageVersion: 4040047-3/M, 06/2011; PackageReference: D8; PackageDescription: 8-Pin Plastic Small Outline, Body 4.9 x 3.9 mm, Pitch 1.27 mm; Supplier 1: Digi-Key; Supplier Part Number 1: OPA2704UA/2K5G4-ND; Supplier 2: Mouser; Supplier Part Number 2: 595-OPA2704UA/2K5G4; Eco-Plan: Green (RoHS & no Sb/Br); Slew Rate(Typ)(V/us): 3; Total Supply Voltage(Min)(+5V is 5, +/-5V is 10): 4; Mounting Technology: Surface Mount; Code_JEDEC: MS-012; ComponentLink1Description: Manufacturer URL; ComponentLink1URL: http://www.ti.com/; ComponentLink2Description: Datasheet; ComponentLink2URL: http://www.ti.com/lit/ds/symlink/opa2704.pdf; ComponentLink3Description: Package Specification; ComponentLink3URL: http://www.ti.com/litv/pdf/msoi002j
footprint TI-D8_N (SOIC, 8-Leads, Body 4.9x3.9mm, Pitch 1.27mm, IPC Medium Density)
footprint TI-D8_L (SOIC, 8-Leads, Body 4.9x3.9mm, Pitch 1.27mm, IPC High Density)
footprint TI-D8_M (SOIC, 8-Leads, Body 4.9x3.9mm, Pitch 1.27mm, IPC Low Density)
pins on every part: 4 V- (power), 8 V+ (power)
part A pins: 1 OUT A (out), 2 IN A- (in), 3 IN A+ (in)
part B pins: 5 IN B+ (in), 6 IN B- (in), 7 OUT B (out)

## OPA2704UAG4
designator U?
CMOS, Rail-to-Rail I/O, Operational Amplifier, 4 to 12 V, -40 to 85 degC, 8-pin SOIC (D8), Green (RoHS & no Sb/Br); Manufacturer: Texas Instruments; PartNumber: OPA2704UAG4; CMRR(Min)(dB): 70; GBW(Typ)(MHz): 3; IIB(Max)(pA): 10; Iq per channel(Max)(mA): 0.2; Number of Channels: 2; Offset Drift(Typ)(uV/C): 4; Packing: TUBE; Rating: Catalog; Sub Family: Low Input Bias Current Amp (<=10pA), Low Power Amp (<=500uA), Precision Amplifier; Total Supply Voltage(Max)(+5V is 5, +/-5V is 10): 12; Vio (25C)(Max)(mV): 0.75; DatasheetVersion: SBOS180A; PackageVersion: 4040047-3/M, 06/2011; PackageReference: D8; PackageDescription: 8-Pin Plastic Small Outline, Body 4.9 x 3.9 mm, Pitch 1.27 mm; Supplier 1: Digi-Key; Supplier Part Number 1: OPA2704UAG4-ND; Supplier 2: Mouser; Supplier Part Number 2: 595-OPA2704UAG4; Eco-Plan: Green (RoHS & no Sb/Br); Slew Rate(Typ)(V/us): 3; Total Supply Voltage(Min)(+5V is 5, +/-5V is 10): 4; Mounting Technology: Surface Mount; Code_JEDEC: MS-012; ComponentLink1Description: Manufacturer URL; ComponentLink1URL: http://www.ti.com/; ComponentLink2Description: Datasheet; ComponentLink2URL: http://www.ti.com/lit/ds/symlink/opa2704.pdf; ComponentLink3Description: Package Specification; ComponentLink3URL: http://www.ti.com/litv/pdf/msoi002j
footprint TI-D8_N (SOIC, 8-Leads, Body 4.9x3.9mm, Pitch 1.27mm, IPC Medium Density)
footprint TI-D8_L (SOIC, 8-Leads, Body 4.9x3.9mm, Pitch 1.27mm, IPC High Density)
footprint TI-D8_M (SOIC, 8-Leads, Body 4.9x3.9mm, Pitch 1.27mm, IPC Low Density)
pins on every part: 4 V- (power), 8 V+ (power)
part A pins: 1 OUT A (out), 2 IN A- (in), 3 IN A+ (in)
part B pins: 5 IN B+ (in), 6 IN B- (in), 7 OUT B (out)

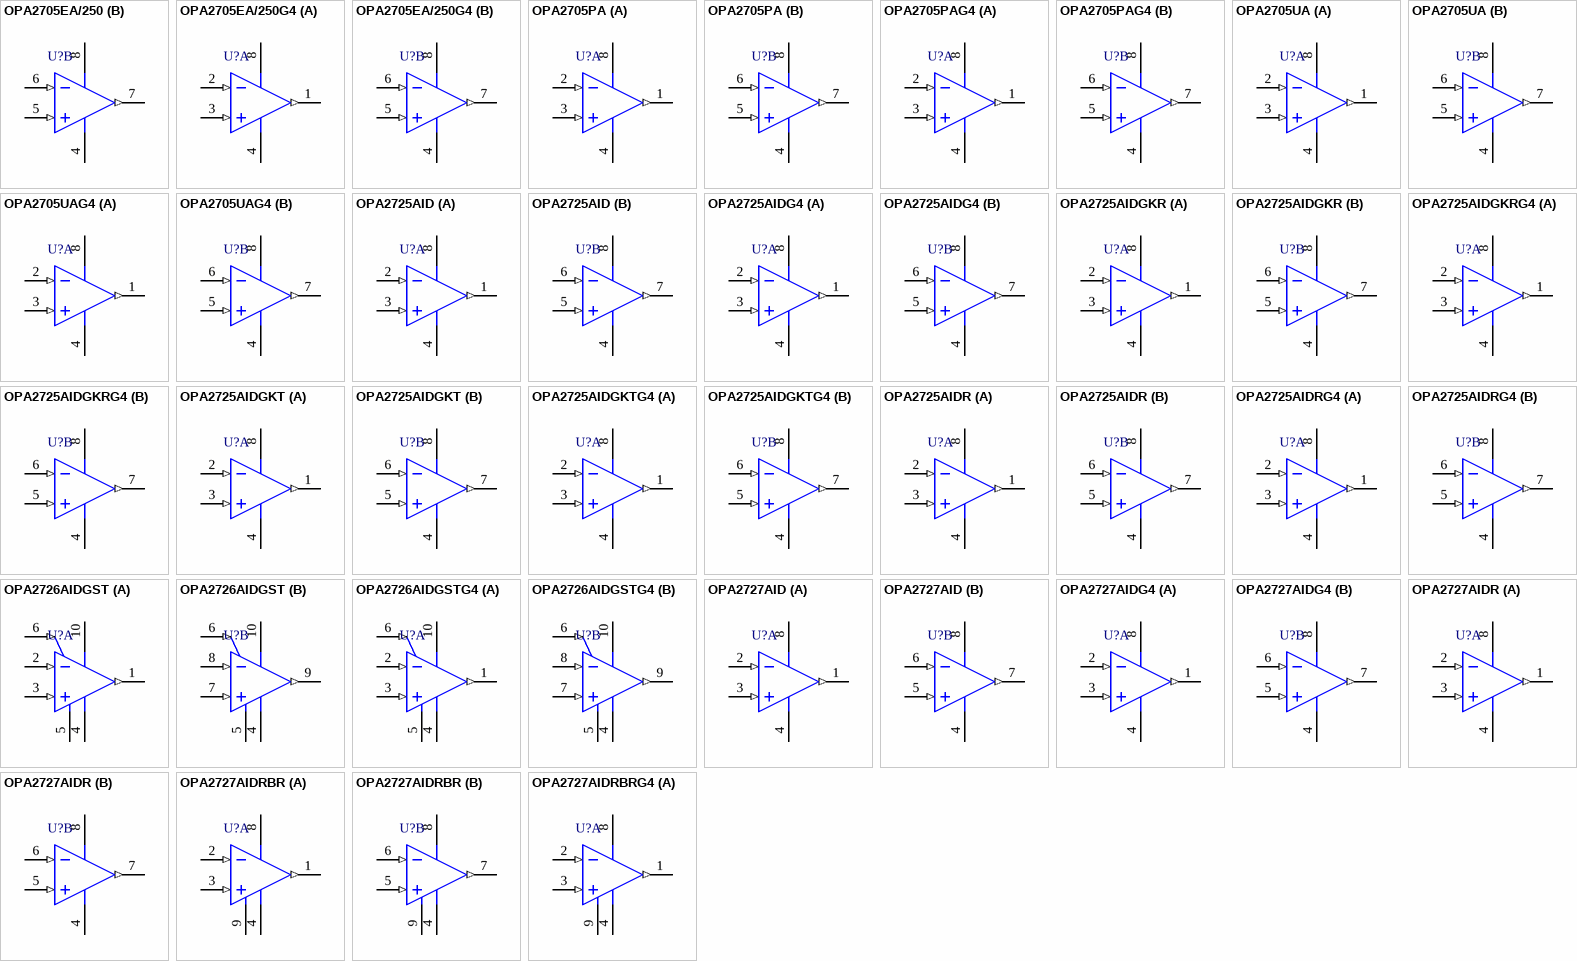
[diagram p45: symbols OPA2705EA/250 to OPA2727AIDRBRG4]